# Altium schematic symbol library MyLib.SchLib: 1 symbol
Pins are listed as number, name and electrical type; pins without a type are passive.

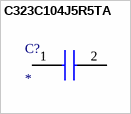
[diagram p0: symbol C323C104J5R5TA]

## C323C104J5R5TA
designator C?
Capacitor; Manufacturer_Name: KEMET; Manufacturer_Part_Number: C323C104J5R5TA; Datasheet Link: https://search.kemet.com/component-documentation/download/specsheet/C323C104J5R5TA; Height: 7.62mm; Mouser Part Number: 80-C323C104J5R; Mouser Price/Stock: https://www.mouser.co.uk/ProductDetail/KEMET/C323C104J5R5TA?qs=Qblnm30vzmKCqy99RB1Stw%3D%3D; Arrow Part Number: C323C104J5R5TA; Arrow Price/Stock: null?region=nac
footprint C323C104J5R5TA
pins: 1, 2